# EAGLE library part MAX3227 (library HyTechDevices)
Analog Device MAX3227 Datasheet <https://www.analog.com/media/en/technical-documentation/data-sheets/max3224e-max3245e.pdf> 3-V to 5.5-V Single-Channel RS232 Driver/Receiver
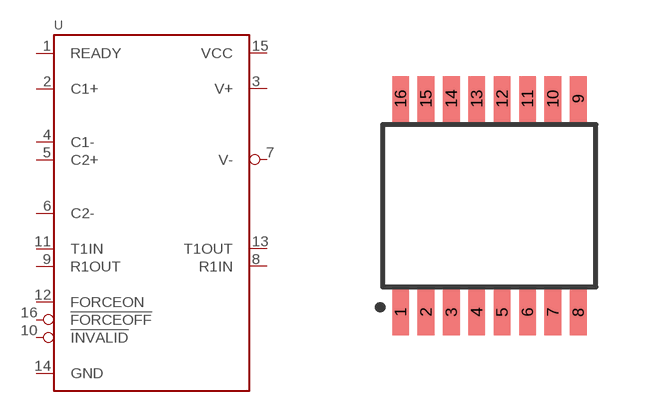
[diagram p80: symbol with the pads of SSOP-16; footprint SSOP-16]

Designator prefix U

## MAX3227 (DKPN: 175-MAX3227EEAE/V+TCT-ND; MANUFACTURER: Analog Devices Inc.; MOPN: 700-MAX3227EAE; MPN: MAX3227EEAE/V+T)  [SSOP-16]
1  READY  out
2  C1+  pas
3  V+
4  C1-  pas
5  C2+  pas
6  C2-  pas
7  V-
8  R1IN  in
9  R1OUT  out
10  !INVALID  out
11  T1IN  in
12  FORCEON  in
13  T1OUT  out
14  GND  pwr
15  VCC  pwr
16  !FORCEOFF  in

## Footprint SSOP-16 (pad centres in mm)
smd 0.419 x 1.143: 1 -2.159,-2.667; 2 -1.524,-2.667; 3 -0.889,-2.667; 4 -0.254,-2.667; 5 0.381,-2.667; 6 1.016,-2.667; 7 1.651,-2.667; 8 2.286,-2.667; 9 2.286,2.667; 10 1.651,2.667; 11 1.016,2.667; 12 0.381,2.667; 13 -0.254,2.667; 14 -0.889,2.667; 15 -1.524,2.667; 16 -2.159,2.667